# Altium footprint library Multiwatt11V.PcbLib: 1 footprints
Each footprint in its own frame and in the unit in brackets; x right, y up, seen from the top. Pads: shape width x height; smd on the part's side, far side on the other; paste and mask are expansions set on the pad; w line width, h text height; cw(c..) or ccw(c..) is an arc to the next point about the centre after c.
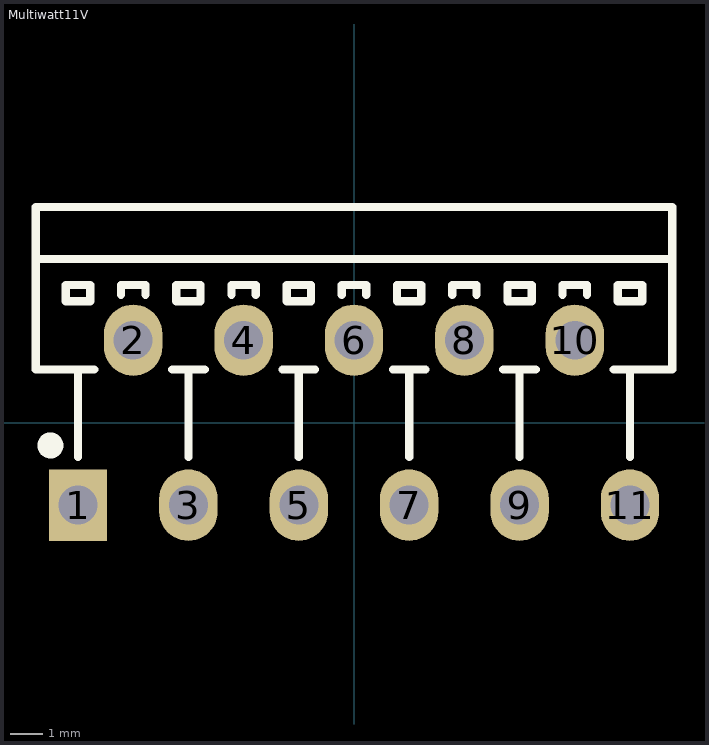
[diagram p0: the footprint, top view; thin cyan lines are the x and y axes]

## Multiwatt11V [mm]
pads (11):
  rect 1.8x2.2 hole 1.2: 1(-8.5,-2.54)
  oval 1.8x2.2 hole 1.2: 2(-6.8,2.54) 3(-5.1,-2.54) 4(-3.4,2.54) 5(-1.7,-2.54) 6(0,2.54) 7(1.7,-2.54) 8(3.4,2.54) 9(5.1,-2.54) 10(6.8,2.54) 11(8.5,-2.54)
Top Overlay:
  circle w0.4: c-9.35,-0.7 r0.2
  lines w0.254: -8.5,-1.06 -8.5,1.64 ; -8,1.64 -9.8,1.64 -9.8,5.04 ; -7.175,3.94 -7.175,4.24 -6.425,4.24 -6.425,3.94 ; -5.6,1.64 -4.6,1.64 ; -5.1,-1.06 -5.1,1.64 ; -3.775,3.94 -3.775,4.24 -3.025,4.24 -3.025,3.94 ; -2.2,1.64 -1.2,1.64 ; -1.7,-1.06 -1.7,1.64 ; -0.375,3.94 -0.375,4.24 0.375,4.24 0.375,3.94 ; 1.2,1.64 2.2,1.64 ; 1.7,-1.06 1.7,1.64 ; 3.025,3.94 3.025,4.24 3.775,4.24 3.775,3.94 ; 4.6,1.64 5.6,1.64 ; 5.1,-1.06 5.1,1.64 ; 6.425,3.94 6.425,4.24 7.175,4.24 7.175,3.94 ; 8,1.64 9.8,1.64 9.8,5.04 ; 8.5,-1.06 8.5,1.64 ; -9.8,5.04 -9.8,6.64 9.8,6.64 9.8,5.04 ; -9.8,5.04 9.8,5.04 ; -8.875,3.74 -8.875,4.24 -8.125,4.24 -8.125,3.74 -8.875,3.74 ; -5.475,3.74 -4.725,3.74 -4.725,4.24 -5.475,4.24 -5.475,3.74 ; -2.075,3.74 -1.325,3.74 -1.325,4.24 -2.075,4.24 -2.075,3.74 ; 1.325,3.74 2.075,3.74 2.075,4.24 1.325,4.24 1.325,3.74 ; 4.725,3.74 5.475,3.74 5.475,4.24 4.725,4.24 4.725,3.74 ; 8.125,3.74 8.125,4.24 8.875,4.24 8.875,3.74 8.125,3.74